# EAGLE library part MCP4921 (library dviid)
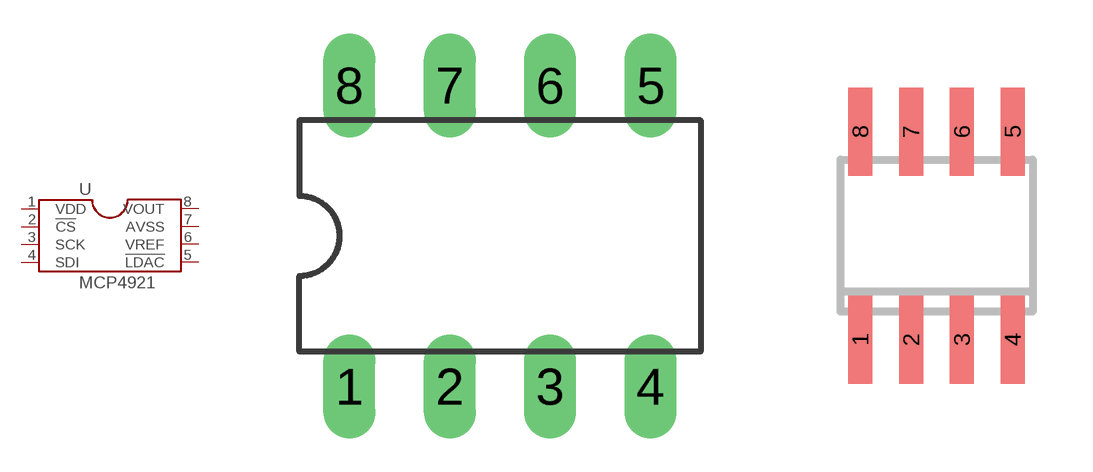
[diagram p14: symbol with the pads of DIL08; footprints DIL08, SOIC8]

Designator prefix -

## MCP4921  [DIL08]
1  VDD  pwr
2  !CS  in
3  SCK  in
4  SDI  in
5  !LDAC  in
6  VREF  pwr
7  AVSS  pwr
8  VOUT  pas

## MCP4921SN  [SOIC8]
Pads as for DIL08

## Footprint DIL08 (pad centres in mm)
drill 0.813 long: 1 -3.81,-3.81; 2 -1.27,-3.81; 3 1.27,-3.81; 4 3.81,-3.81; 5 3.81,3.81; 6 1.27,3.81; 7 -1.27,3.81; 8 -3.81,3.81

## Footprint SOIC8 (pad centres in mm)
smd 0.6 x 2.2: 1 -1.905,-2.6; 2 -0.635,-2.6; 3 0.635,-2.6; 4 1.905,-2.6; 5 1.905,2.6; 6 0.635,2.6; 7 -0.635,2.6; 8 -1.905,2.6